# Altium footprint library KLS7-SS03-12D02.PcbLib: 1 footprints
Each footprint in its own frame and in the unit in brackets; x right, y up, seen from the top. Pads: shape width x height; smd on the part's side, far side on the other; paste and mask are expansions set on the pad; w line width, h text height; cw(c..) or ccw(c..) is an arc to the next point about the centre after c.
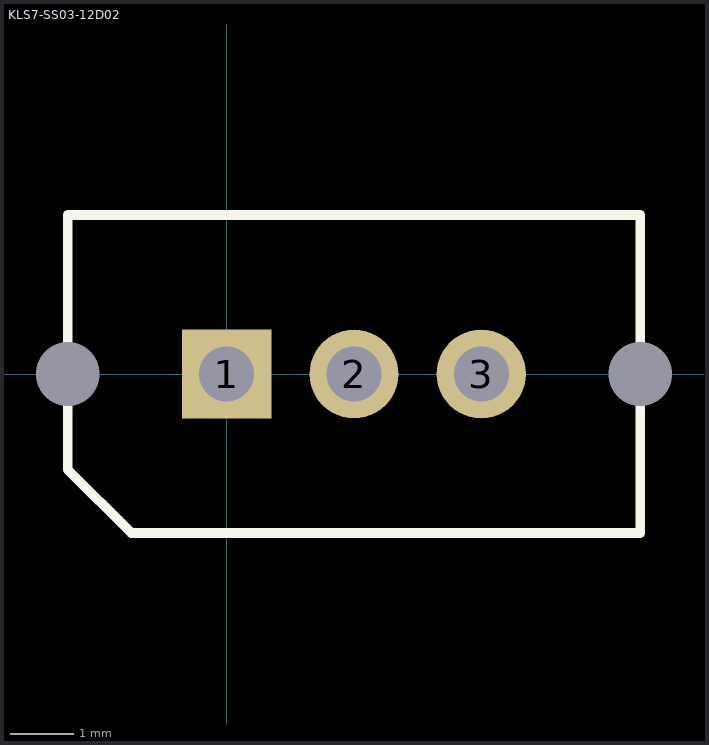
[diagram p0: the footprint, top view; thin cyan lines are the x and y axes]

## KLS7-SS03-12D02 [mm]
pads (5):
  round 0 hole 1: 0(-2.5,0) 0(6.5,0)
  rect 1.4x1.4 hole 0.864: 1(0,0)
  round 1.4 hole 0.864: 2(2,0) 3(4,0)
Top Overlay:
  lines w0.152: -2.5,-1.5 -2.5,2.5 6.5,2.5 6.5,-2.5 -1.5,-2.5 -2.5,-1.5
3D body: height 4.7, standoff 4, extent 1,-1 3,1
3D body: height 4.7, standoff 0, extent -2.5,-2.5 6.5,2.5